# Altium integrated library lib_passives.IntLib: 14 symbols
Pins are listed as number, name and electrical type; pins without a type are passive.

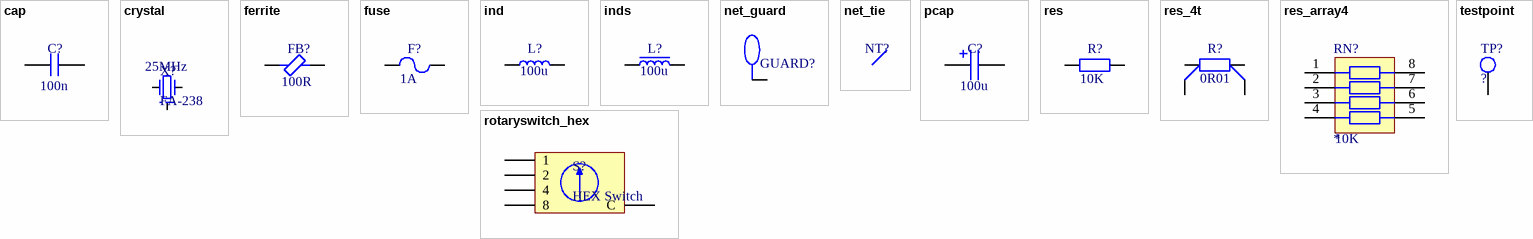
[diagram p0: symbols cap to testpoint]

## cap
designator C?  value 100n  (hidden comment: *)
Capacitor; voltage: *; type: *; #digikey: *; #mouser: *
footprint CAPC4564X11N (Chip Capacitor, 2-Leads, Body 4.50x6.40mm, IPC Medium Density)
footprint CAPC4532X14N (Chip Capacitor, 2-Leads, Body 4.50x3.20mm, IPC Medium Density)
footprint CAPC3225X14N (Chip Capacitor, 2-Leads, Body 3.20x2.50mm, IPC Medium Density)
footprint CAPC3216X14N (Chip Capacitor, 2-Leads, Body 3.20x1.60mm, IPC Medium Density)
footprint CAPC2012X11N (Chip Capacitor, 2-Leads, Body 2.00x1.25mm, IPC Medium Density)
footprint CAPC1608X08N (Chip Capacitor, 2-Leads, Body 1.60x0.80mm, IPC Medium Density)
footprint CAPC1210X10N (Chip Capacitor, 2-Leads, Body 1.17x1.02mm, IPC Medium Density)
footprint CAPC1005X06N (Chip Capacitor, 2-Leads, Body 1.00x0.50mm, IPC Medium Density)
pins: 1, 2

## crystal
designator X?, comment FA-238  freq: 25MHz
Crystal With Shield; #digikey: *; #mouser: *
footprint DFN220P320X70-4N (DFN, 4-Leads, Body 2.50x3.20mm, Pitch 2.20mm, IPC Medium Density)
pins: 1, 2, SHIELD

## ferrite
designator FB?  value 100R  (hidden comment: *)
Inductor; #digikey: *; #mouser: *
footprint INDC4625X38N (Chip Inductor, 2-Leads, Body 4.65x2.54mm, IPC Medium Density)
footprint INDC4532X28N (Chip Inductor, 2-Leads, Body 4.50x3.20mm, IPC Medium Density)
footprint INDC3216X20N (Chip Inductor, 2-Leads, Body 3.20x1.60mm, IPC Medium Density)
footprint INDC2520X23N (Chip Inductor, 2-Leads, Body 2.50x2.03mm, IPC Medium Density)
footprint INDC2009X12N (Chip Inductor, 2-Leads, Body 2.00x0.90mm, IPC Medium Density)
footprint INDC1005X06N (Chip Inductor, 2-Leads, Body 1.00x0.50mm, IPC Medium Density)
footprint INDC1608X08N (Chip Inductor, 2-Leads, Body 1.60x0.80mm, IPC Medium Density)
footprint INDC2012X11N (Chip Inductor, 2-Leads, Body 2.00x1.25mm, IPC Medium Density)
pins: 1, 2

## fuse
designator F?  value 1A  (hidden comment: *)
Resistor; voltage: *; #digikey: *; #mouser: *
footprint RESC2012X06N (Chip Resistor, 2-Leads, Body 2.00x1.25mm, IPC Medium Density)
footprint RESC3216X07N (Chip Resistor, 2-Leads, Body 3.20x1.60mm, IPC Medium Density)
footprint RESC1608X06N (Chip Resistor, 2-Leads, Body 1.60x0.83mm, IPC Medium Density)
footprint RESC1005X04N (Chip Resistor, 2-Leads, Body 1.05x0.54mm, IPC Medium Density)
pins: 1, 2

## ind
designator L?  value 100u  (hidden comment: *)
Inductor; current: *; #digikey: *; #mouser: *
footprint INDC4625X38N (Chip Inductor, 2-Leads, Body 4.65x2.54mm, IPC Medium Density)
footprint INDC4532X28N (Chip Inductor, 2-Leads, Body 4.50x3.20mm, IPC Medium Density)
footprint INDC3216X20N (Chip Inductor, 2-Leads, Body 3.20x1.60mm, IPC Medium Density)
footprint INDC2520X23N (Chip Inductor, 2-Leads, Body 2.50x2.03mm, IPC Medium Density)
footprint INDC2009X12N (Chip Inductor, 2-Leads, Body 2.00x0.90mm, IPC Medium Density)
footprint INDC1005X06N (Chip Inductor, 2-Leads, Body 1.00x0.50mm, IPC Medium Density)
footprint INDC1608X08N (Chip Inductor, 2-Leads, Body 1.60x0.80mm, IPC Medium Density)
footprint INDC2012X11N (Chip Inductor, 2-Leads, Body 2.00x1.25mm, IPC Medium Density)
footprint INDC4040X18N (Chip Inductor, 2-Leads, Body 4.00x4.00mm, IPC Medium Density)
pins: 1, 2
1 alternate drawing of the same symbol

## inds
designator L?  value 100u  (hidden comment: *)
Inductor; current: *; #digikey: *; #mouser: *
footprint INDC4625X38N (Chip Inductor, 2-Leads, Body 4.65x2.54mm, IPC Medium Density)
footprint INDC4532X28N (Chip Inductor, 2-Leads, Body 4.50x3.20mm, IPC Medium Density)
footprint INDC3216X20N (Chip Inductor, 2-Leads, Body 3.20x1.60mm, IPC Medium Density)
footprint INDC2520X23N (Chip Inductor, 2-Leads, Body 2.50x2.03mm, IPC Medium Density)
footprint INDC2009X12N (Chip Inductor, 2-Leads, Body 2.00x0.90mm, IPC Medium Density)
footprint INDC1005X06N (Chip Inductor, 2-Leads, Body 1.00x0.50mm, IPC Medium Density)
footprint INDC1608X08N (Chip Inductor, 2-Leads, Body 1.60x0.80mm, IPC Medium Density)
footprint INDC2012X11N (Chip Inductor, 2-Leads, Body 2.00x1.25mm, IPC Medium Density)
footprint INDC4040X18N (Chip Inductor, 2-Leads, Body 4.00x4.00mm, IPC Medium Density)
pins: 1, 2

## net_guard
designator GUARD?  (value not drawn)  (net tie, no BOM)
Net guard, splits a net into guard net which can be labeled.
footprint NETC1005X04N (Chip Resistor, 2-Leads, Body 1.05x0.54mm, IPC Medium Density)
footprint NETC1608X06N (Chip Resistor, 2-Leads, Body 1.60x0.83mm, IPC Medium Density)
footprint NETC2012X06N (Chip Resistor, 2-Leads, Body 2.00x1.25mm, IPC Medium Density)
footprint NETC3216X07N (Chip Resistor, 2-Leads, Body 3.20x1.60mm, IPC Medium Density)
pins: 1, 2

## net_tie
designator NT?  (value not drawn)  (net tie, no BOM)
footprint NETC1005X04N (Chip Resistor, 2-Leads, Body 1.05x0.54mm, IPC Medium Density)
footprint NETC1608X06N (Chip Resistor, 2-Leads, Body 1.60x0.83mm, IPC Medium Density)
footprint NETC2012X06N (Chip Resistor, 2-Leads, Body 2.00x1.25mm, IPC Medium Density)
footprint NETC3216X07N (Chip Resistor, 2-Leads, Body 3.20x1.60mm, IPC Medium Density)
pins: 1, 2

## pcap
designator C?  value 100u  (hidden comment: *)
Polarized capacitor; voltage: *; #digikey: *; #mouser: *
pins: 1, 2

## res
designator R?  value 10K  (hidden comment: *)
Resistor; power: *; voltage: *; #digikey: *; #mouser: *
footprint RESC2012X06N (Chip Resistor, 2-Leads, Body 2.00x1.25mm, IPC Medium Density)
footprint RESC6332X07N (Chip Resistor, 2-Leads, Body 6.30x3.20mm, IPC Medium Density)
footprint RESC5025X07N (Chip Resistor, 2-Leads, Body 5.00x2.50mm, IPC Medium Density)
footprint RESC3225X07N (Chip Resistor, 2-Leads, Body 3.20x2.49mm, IPC Medium Density)
footprint RESC3216X07N (Chip Resistor, 2-Leads, Body 3.20x1.60mm, IPC Medium Density)
footprint RESC1608X06N (Chip Resistor, 2-Leads, Body 1.60x0.83mm, IPC Medium Density)
footprint RESC1005X04N (Chip Resistor, 2-Leads, Body 1.05x0.54mm, IPC Medium Density)
pins: 1, 2

## res_4t
designator R?  value 0R01  (hidden comment: *)
Resistor; power: *; #digikey: *; #mouser: *
footprint 4T_RESC1632X05N (Chip Resistor, 4-Leads, Body 1,60x3,20mm, IPC Medium Density)
footprint RESC3216X07N_4T (Chip Resistor, 2-Leads, Body 3.20x1.60mm, IPC Medium Density)
footprint RESC2012X06N_4T (Chip Resistor, 2-Leads, Body 2.00x1.25mm, IPC Medium Density)
pins: 1, 2, 3, 4

## res_array4
designator RN?  value 10K
Resistor network
footprint CAC-80P320X160-8N (Chip Array, Concave, 8-Leads, Pitch 0.80mm,  Body 3.20x1.60mm,  IPC Medium Density)
pins: 1, 2, 3, 4, 5, 6, 7, 8

## rotaryswitch_hex
designator S?, comment HEX Switch
Hex rotary switch; #digikey: *; #mouser: *
footprint rotary_encoder_2x3
pins: 1, 2, 4, 8, C

## testpoint
designator TP?, comment ?  (no BOM)
Test point; testpoint: .Comment; #digikey: *; #mouser: *
footprint testpoint_smd (Surfacemount testpoint)
footprint testpoint_tht (Throughhole testpoint)
footprint testpoint_tht_09mm (Throughhole testpoint)
footprint testpoint_tht_12mm (Throughhole testpoint)
pins: 1